# Altium footprint library myPCB.PcbLib: 96 footprints (part 3 of 6)
Each footprint in its own frame and in the unit in brackets; x right, y up, seen from the top. Pads: shape width x height; smd on the part's side, far side on the other; paste and mask are expansions set on the pad; w line width, h text height; cw(c..) or ccw(c..) is an arc to the next point about the centre after c.
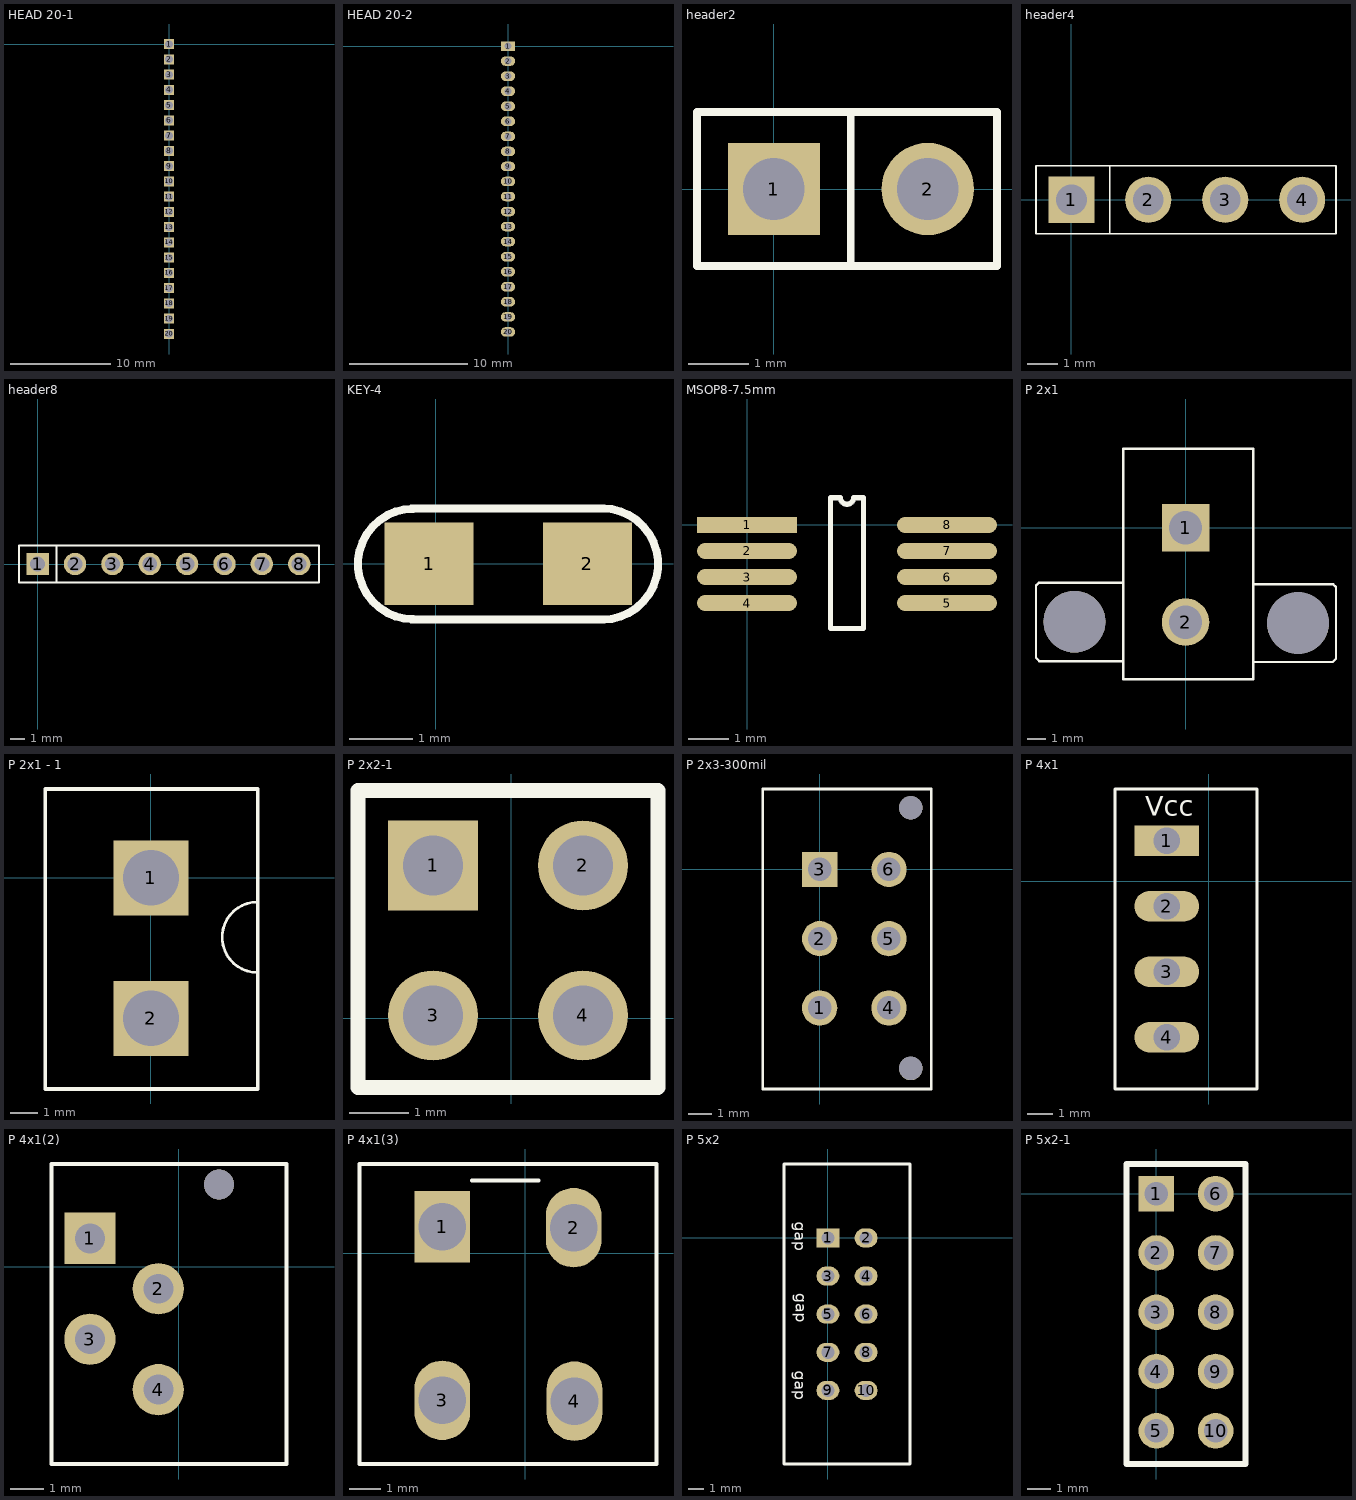
[diagram p2: the footprints below, top view; thin cyan lines are the x and y axes]

## HEAD 20-1 [mil] "邮票孔设计"
pads (20):
  rect 40x40 hole 30: 1(0,0) 2(0,-60) 3(0,-120) 4(0,-180) 5(0,-240) 6(0,-300) 7(0,-360) 8(0,-420) 9(0,-480) 10(0,-540) 11(0,-600) 12(0,-660) 13(0,-720) 14(0,-780) 15(0,-840) 16(0,-900) 17(0,-960) 18(0,-1020) 19(0,-1080) 20(0,-1140)

## HEAD 20-2 [mm] "1.27mm 排针 210625"
pads (20):
  rect 1.2x0.8 hole 0.6: 1(0,0)
  oval 1.2x0.8 hole 0.6: 2(0,-1.27) 3(0,-2.54) 4(0,-3.81) 5(0,-5.08) 6(0,-6.35) 7(0,-7.62) 8(0,-8.89) 9(0,-10.16) 10(0,-11.43) 11(0,-12.7) 12(0,-13.97) 13(0,-15.24) 14(0,-16.51) 15(0,-17.78) 16(0,-19.05) 17(0,-20.32) 18(0,-21.59) 19(0,-22.86) 20(0,-24.13)

## header2 [mil] "pin2"
height 354.33
pads (2):
  rect 60x60 hole 40: 1(0,0)
  round 60 hole 40: 2(100,0)
Top Overlay:
  lines w5: 50,-50 50,50 ; -50,-50 145,-50 145,-25 145,25 145,50 -50,50 -50,-50
3D body "User Library-2_54PIN_double.STEP": height 336.22, standoff -118.11, extent -52,-49 148,51

## header4 [mil] "pin4"
height 354.33
pads (4):
  rect 60x60 hole 40: 1(0,0)
  round 60 hole 40: 2(100,0) 3(200,0) 4(300,0)
Top Overlay:
  lines w2: 50,-44 50,44 ; -46,-44 344,-44 344,44 -46,44 -46,-44
3D body "母排针.STEP": height 334.65, standoff -182.36, extent -50.84,-50.43 159,48
3D body "母排针.STEP": height 334.65, standoff -182.36, extent 150,-50.43 359.84,48

## header8 [mil] "pin8，符合洞洞板"
height 354.33
pads (8):
  rect 60x60 hole 40: 1(0,0)
  round 60 hole 40: 2(100,0) 3(200,0) 4(300,0) 5(400,0) 6(500,0) 7(600,0) 8(700,0)
Top Overlay:
  lines w5: 50,-50 50,50 ; -50,-50 753,-50 753,50 -50,50 -50,-50
3D body "User Library-2_54PIN_double.STEP": height 336.22, standoff -118.11, extent 550,-49.99 750,50.01
3D body "User Library-2_54PIN_double.STEP": height 336.22, standoff -118.11, extent 350,-49.99 550,50.01
3D body "User Library-2_54PIN_double.STEP": height 336.22, standoff -118.11, extent 150,-49.99 350,50.01
3D body "User Library-2_54PIN_double.STEP": height 336.22, standoff -118.11, extent -50,-49.99 150,50.01

## KEY-4 [mm]
pads (2):
  rect 1.4x1.3 smd: 1(-0.102,0) 2(2.388,0)
Top Overlay:
  lines w0.127: -0.377,-0.876 2.647,-0.876 ; -0.377,0.871 2.647,0.871 ; -0.351,-0.87 cw(c-0.351,-0.003) -0.351,0.865 ; 2.622,-0.876 ccw(c2.622,-0.003) 2.622,0.871

## MSOP8-7.5mm [mm] "焊盘宽度0.4mm，最大宽度7.5mm"
pads (8):
  rect 2.5x0.4 smd: 1(0,0)
  oval 2.5x0.4 smd: 2(0,-0.65) 3(0,-1.3) 4(0,-1.95) 5(5,-1.95) 6(5,-1.3) 7(5,-0.65) 8(5,0)
Top Overlay:
  lines w0.127: 2.085,0.66 2.085,-2.591 2.915,-2.591 2.915,0.686 ; 2.085,0.681 2.338,0.681 ccw(c2.5,0.681) 2.662,0.681 2.915,0.681

## P 2x1 [mil] "Molex 76829-0002 电源公 电源线"
pads (4):
  rect 100x100 hole 70: 1(0,0)
  round 100 hole 70: 2(0,-199)
  round 130 hole 130: ""(-234,-198) ""(237,-201)
Top Overlay:
  lines w5: -131,-281 -308,-281 -315,-274 -315,-122 -309,-116 -131,-116 ; 143,-119 311,-119 317,-125 317,-276 310,-283 145,-283 ; -131,-319 -131,166 59.5,166 143,166 143,-319 -131,-319

## P 2x1 - 1 [mm] "KF301"
pads (2):
  rect 2.7x2.7 hole 2: 1(0,0) 2(0,-5.055)
Top Overlay:
  lines w0.1: 3.835,-3.406 cw(c3.835,-2.134) 3.835,-0.861
  lines w0.127: -3.81,-7.595 3.835,-7.595 3.835,3.2 0.572,3.2 -3.81,3.2 -3.81,-7.595
3D body "User Library-Terminal-Screw-3A-2way.STEP": height 10, standoff -3, extent -3.785,-7.51 3.815,3.09

## P 2x2-1 [mil] "20210126"
pads (4):
  rect 60x60 hole 40: 1(-52,102)
  round 60 hole 40: 2(48,102) 3(-52,2) 4(48,2)
Top Overlay:
  lines w10: -27,152 98,152 98,-46 -102,-46 -102,152 23,152
3D body "User Library-2_54PIN_double.STEP": height 336.22, standoff -118.11, extent -104,-45.99 96,54.01
3D body "User Library-2_54PIN_double.STEP": height 336.22, standoff -118.11, extent -102,54.01 98,154.01

## P 2x3-300mil [mil] "Molex 43045-0612 霍尔传感器公 信号线"
pads (8):
  round 60 hole 40: 1(0,-236) 2(0,-118) 4(118,-236) 5(118,-118) 6(118,0)
  rect 60x60 hole 40: 3(0,0)
  round 40 hole 40: ""(155,-339) ""(155,105)
Top Overlay:
  lines w5: -97,-374 -97,137 88.5,137 190,137 190,-374 -97,-374

## P 4x1 [mil] "plug_white_8 关节角度传感器 信号线"
pads (4):
  rect 98.43x47.24 hole 40: 1(-64,62)
  oval 98.43x47.24 hole 40: 2(-64,-38) 3(-64,-138) 4(-64,-238)
Top Overlay:
  lines w5: -143,-317 74,-317 74,141 -143,141 -143,-317
  text "Vcc" at -97,100 h30

## P 4x1(2) [mil] "molex 503159-0400 CAN接口母 信号线"
pads (5):
  rect 60x60 hole 35: 1(-104,33)
  round 60 hole 35: 2(-24,-26) 3(-104,-85) 4(-24,-144)
  round 35 hole 35: ""(47,96)
Top Overlay:
  lines w5: -149,-231 126,-231 126,120 -149,120 -149,-231

## P 4x1(3) [mil] "molex 39281043 MOTOR电源接口公 电源线"
pads (4):
  rect 70x90 hole 60: 1(-104,33)
  oval 70x100 hole 60: 2(61,32) 3(-104,-185) 4(62,-186)
Top Overlay:
  lines w5: -67,91 17,91 ; -208,-265 -208,112 165,112 165,-265 -208,-265

## P 5x2 [mil] "3M N2510-6002-RB 编码器接口公 信号线"
pads (10):
  rect 60x50 hole 35: 1(0,0)
  oval 60x50 hole 35: 2(100,0) 3(0,-100) 4(100,-100) 5(0,-200) 6(100,-200) 7(0,-300) 8(100,-300) 9(0,-400) 10(100,-400)
Top Overlay:
  lines w7.87: -115,-593 -115,194 25,194 215,194 215,-593 -115,-593
  text "gap" at -87,-348 h30
  text "gap" at -87,42 h30
  text "gap" at -85,-145 h30

## P 5x2-1 [mil]
pads (10):
  rect 60x60 hole 40: 1(0,0)
  round 60 hole 40: 2(0,-100) 3(0,-200) 4(0,-300) 5(0,-400) 6(100,0) 7(100,-100) 8(100,-200) 9(100,-300) 10(100,-400)
Top Overlay:
  lines w10: 25,50 150,50 150,-456 -50,-456 -50,50 75,50
3D body "User Library-2_54PIN_double.STEP": height 336.22, standoff -118.11, extent -50,-450 150,-350
3D body "User Library-2_54PIN_double.STEP": height 336.22, standoff -118.11, extent -50,-350 150,-250
3D body "User Library-2_54PIN_double.STEP": height 336.22, standoff -118.11, extent -53,-250 147,-150
3D body "User Library-2_54PIN_double.STEP": height 336.22, standoff -118.11, extent -47,-149 153,-49
3D body "User Library-2_54PIN_double.STEP": height 336.22, standoff -118.11, extent -47,-49 153,51